# Altium integrated library Diodes - TVS.IntLib: 5379 symbols (part 11 of 122)
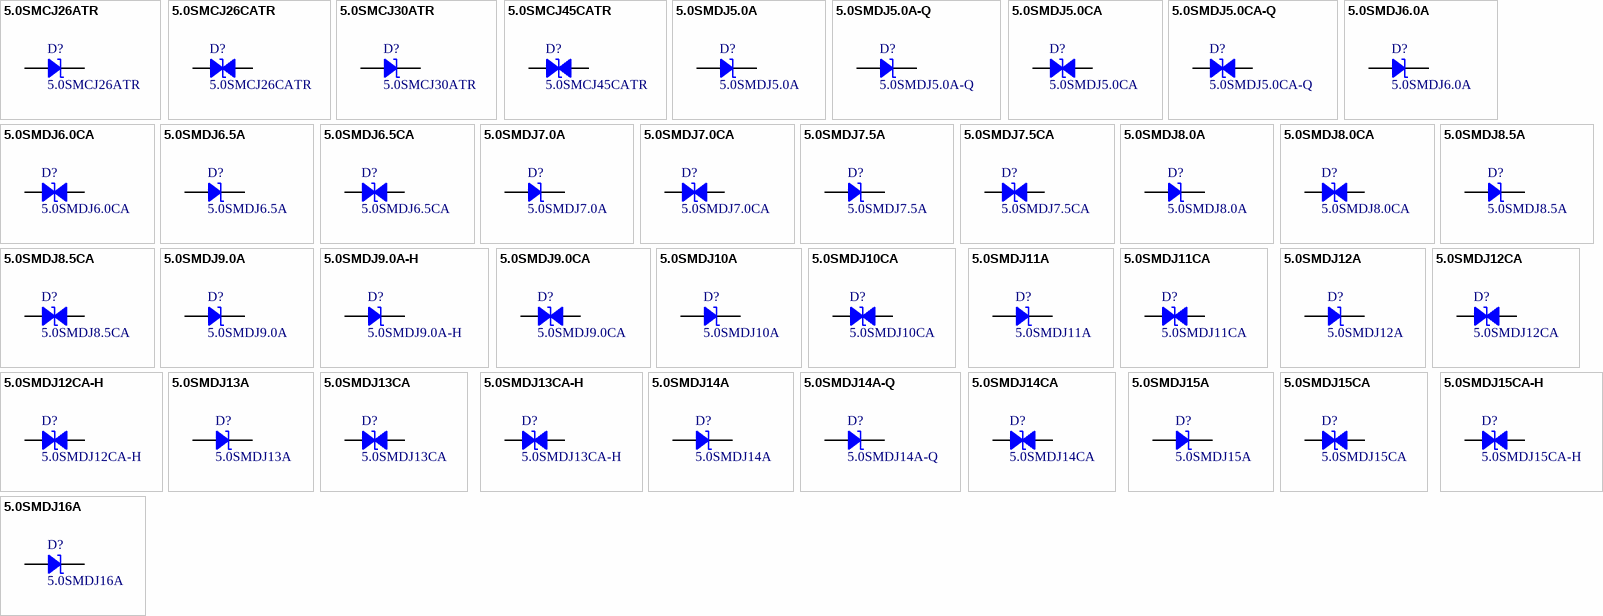
[diagram p144: symbols 5.0SMCJ26ATR to 5.0SMDJ16A]

## 5.0SMDJ14CA
designator D?
TVS DIODE 14V 23.2V DO214AB; Manufacturer: Littelfuse Inc.; Bidirectional Channels: 1; Current - Peak Pulse (10/1000µs): 216A; Power Line Protection: No; Power - Peak Pulse: 5000W (5kW); Type: Zener; Voltage - Breakdown (Min): 15.6V; Part Number: 5.0SMDJ14CA; Applications: General Purpose; ComponentLink1Description: Datasheet; ComponentLink1URL: https://www.littelfuse.com/products/tvs-diodes/surface-mount/~/media/electronics/datasheets/tvs_diodes/littelfuse_tvs_diode_5_0smdj_datasheet.pdf.pdf; ComponentLink2Description: DigiKey Link; ComponentLink2URL: http://digikey.com/product-detail/en/littelfuse-inc/5.0SMDJ14CA/F6610CT-ND/2699837; LastUpdated: 9/2/2020 1:28:03 AM; Lifecycle Status: Active; Minimum Order: 1; Mounting Type: Surface Mount; Operating Temperature: -65°C ~ 150°C (TJ); Package / Case: DO-214AB, SMC; Packaging: TapeAndReel; PartId: 8144; Part Status: Active; Price: 0.86; Series: 5.0SMDJ; Supplier 1: DigiKey; Supplier Part Number 1: F6610CT-ND; Supplier Device Package: DO-214AB (SMCJ); Voltage - Clamping (Max) @ Ipp: 23.2V; Voltage - Reverse Standoff (Typ): 14V
footprint DO214AB SMC
pins: 1, 2

## 5.0SMDJ15A
designator D?
TVS DIODE 15V 24.4V DO214AB; Manufacturer: Bourns Inc.; Current - Peak Pulse (10/1000µs): 205A; Power Line Protection: No; Power - Peak Pulse: 5000W (5kW); Type: Zener; Unidirectional Channels: 1; Voltage - Breakdown (Min): 16.7V; Part Number: 5.0SMDJ15A; Applications: General Purpose; ComponentLink1Description: Datasheet; ComponentLink1URL: https://www.bourns.com/docs/product-datasheets/5-0smdj.pdf; ComponentLink2Description: DigiKey Link; ComponentLink2URL: http://digikey.com/product-detail/en/bourns-inc/5.0SMDJ15A/5.0SMDJ15ABBCT-ND/7796642; LastUpdated: 9/2/2020 1:20:00 AM; Lifecycle Status: Active; Minimum Order: 1; Mounting Type: Surface Mount; Operating Temperature: -55°C ~ 150°C (TJ); Package / Case: DO-214AB, SMC; Packaging: TapeAndReel; PartId: 6453; Part Status: Active; Price: 0.72; Series: 5.0SMDJ; Supplier 1: DigiKey; Supplier Part Number 1: 5.0SMDJ15ABBCT-ND; Supplier Device Package: DO-214AB (SMC); Voltage - Clamping (Max) @ Ipp: 24.4V; Voltage - Reverse Standoff (Typ): 15V
footprint DO214AB SMC
pins: 1, 2

## 5.0SMDJ15CA
designator D?
TVS DIODE 15V 24.4V DO214AB; Manufacturer: Bourns Inc.; Bidirectional Channels: 1; Current - Peak Pulse (10/1000µs): 205A; Power Line Protection: No; Power - Peak Pulse: 5000W (5kW); Type: Zener; Voltage - Breakdown (Min): 16.7V; Part Number: 5.0SMDJ15CA; Applications: General Purpose; ComponentLink1Description: Datasheet; ComponentLink1URL: https://www.bourns.com/docs/product-datasheets/5-0smdj.pdf; ComponentLink2Description: DigiKey Link; ComponentLink2URL: http://digikey.com/product-detail/en/bourns-inc/5.0SMDJ15CA/5.0SMDJ15CABBCT-ND/7796643; LastUpdated: 9/2/2020 1:28:01 AM; Lifecycle Status: Active; Minimum Order: 1; Mounting Type: Surface Mount; Operating Temperature: -55°C ~ 150°C (TJ); Package / Case: DO-214AB, SMC; Packaging: TapeAndReel; PartId: 7890; Part Status: Active; Price: 0.76; Series: 5.0SMDJ; Supplier 1: DigiKey; Supplier Part Number 1: 5.0SMDJ15CABBCT-ND; Supplier Device Package: DO-214AB (SMC); Voltage - Clamping (Max) @ Ipp: 24.4V; Voltage - Reverse Standoff (Typ): 15V
footprint DO214AB SMC
pins: 1, 2

## 5.0SMDJ15CA-H
designator D?
TVS DIODE 15V 24.4V DO214AB; Manufacturer: Bourns Inc.; Bidirectional Channels: 1; Current - Peak Pulse (10/1000µs): 205A; Power Line Protection: No; Power - Peak Pulse: 5000W (5kW); Type: Zener; Voltage - Breakdown (Min): 16.7V; Part Number: 5.0SMDJ15CA-H; Applications: General Purpose; ComponentLink1Description: Datasheet; ComponentLink1URL: https://www.bourns.com/docs/product-datasheets/5-0smdj.pdf; ComponentLink2Description: DigiKey Link; ComponentLink2URL: http://digikey.com/product-detail/en/bourns-inc/5.0SMDJ15CA-H/5.0SMDJ15CA-HCT-ND/7670056; LastUpdated: 9/2/2020 1:28:04 AM; Lifecycle Status: Active; Minimum Order: 1; Mounting Type: Surface Mount; Operating Temperature: -55°C ~ 150°C (TJ); Package / Case: DO-214AB, SMC; Packaging: TapeAndReel; PartId: 8239; Part Status: Active; Price: 0.91; Series: 5.0SMDJ; Supplier 1: DigiKey; Supplier Part Number 1: 5.0SMDJ15CA-HCT-ND; Supplier Device Package: DO-214AB (SMC); Voltage - Clamping (Max) @ Ipp: 24.4V; Voltage - Reverse Standoff (Typ): 15V
footprint DO214AB SMC
pins: 1, 2

## 5.0SMDJ16A
designator D?
TVS DIODE 16V 26V DO214AB; Manufacturer: Littelfuse Inc.; Current - Peak Pulse (10/1000µs): 193A; Power Line Protection: No; Power - Peak Pulse: 5000W (5kW); Type: Zener; Unidirectional Channels: 1; Voltage - Breakdown (Min): 17.8V; Part Number: 5.0SMDJ16A; Applications: General Purpose; ComponentLink1Description: Datasheet; ComponentLink1URL: https://www.littelfuse.com/products/tvs-diodes/surface-mount/~/media/electronics/datasheets/tvs_diodes/littelfuse_tvs_diode_5_0smdj_datasheet.pdf.pdf; ComponentLink2Description: DigiKey Link; ComponentLink2URL: http://digikey.com/product-detail/en/littelfuse-inc/5.0SMDJ16A/5.0SMDJ16ACT-ND/1835378; LastUpdated: 9/2/2020 1:20:05 AM; Lifecycle Status: Active; Minimum Order: 1; Mounting Type: Surface Mount; Operating Temperature: -65°C ~ 150°C (TJ); Package / Case: DO-214AB, SMC; Packaging: TapeAndReel; PartId: 6945; Part Status: Active; Price: 0.80; Series: 5.0SMDJ; Supplier 1: DigiKey; Supplier Part Number 1: 5.0SMDJ16ACT-ND; Supplier Device Package: DO-214AB (SMCJ); Voltage - Clamping (Max) @ Ipp: 26V; Voltage - Reverse Standoff (Typ): 16V
footprint DO214AB SMC
pins: 1, 2

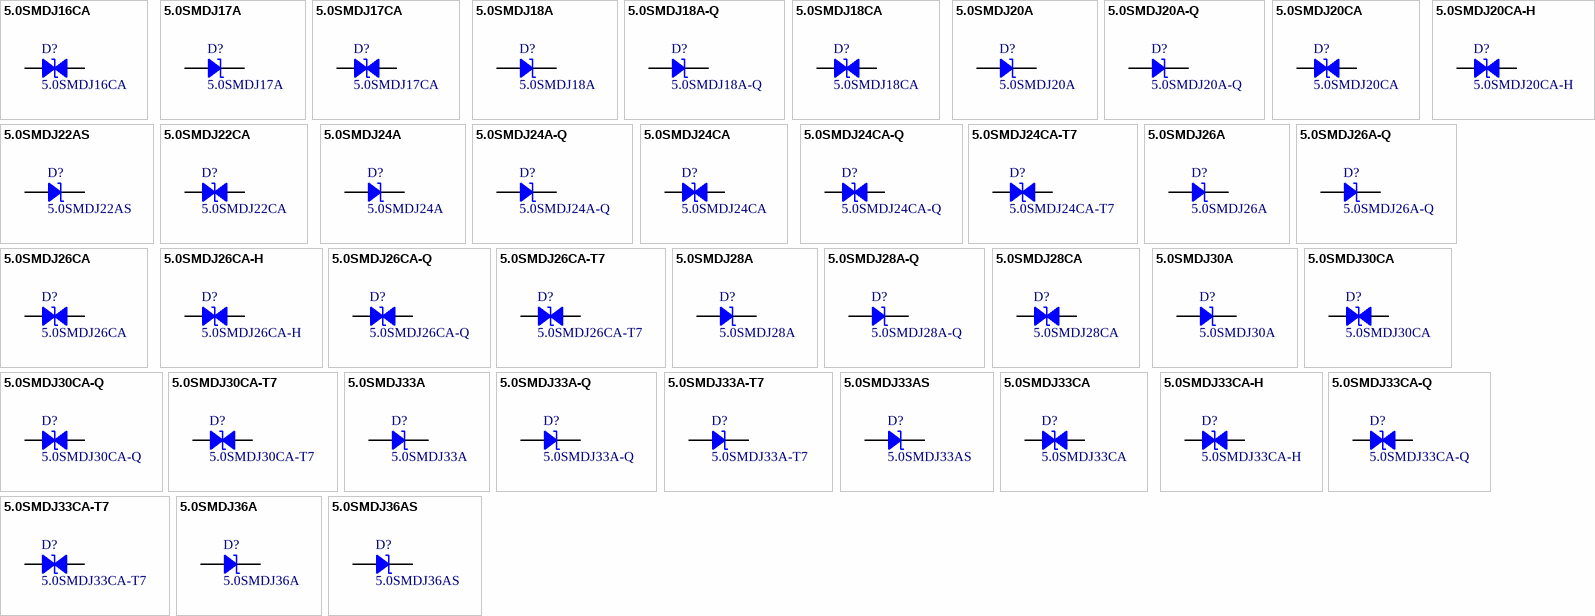
[diagram p11: symbols 5.0SMDJ16CA to 5.0SMDJ36AS]

## 5.0SMDJ16CA
designator D?
TVS DIODE 16V 26V DO214AB; Manufacturer: Littelfuse Inc.; Bidirectional Channels: 1; Current - Peak Pulse (10/1000µs): 193A; Power Line Protection: No; Power - Peak Pulse: 5000W (5kW); Type: Zener; Voltage - Breakdown (Min): 17.8V; Part Number: 5.0SMDJ16CA; Applications: General Purpose; ComponentLink1Description: Datasheet; ComponentLink1URL: https://www.littelfuse.com/products/tvs-diodes/surface-mount/~/media/electronics/datasheets/tvs_diodes/littelfuse_tvs_diode_5_0smdj_datasheet.pdf.pdf; ComponentLink2Description: DigiKey Link; ComponentLink2URL: http://digikey.com/product-detail/en/littelfuse-inc/5.0SMDJ16CA/5.0SMDJ16CACT-ND/2699841; LastUpdated: 9/2/2020 1:28:03 AM; Lifecycle Status: Active; Minimum Order: 1; Mounting Type: Surface Mount; Operating Temperature: -65°C ~ 150°C (TJ); Package / Case: DO-214AB, SMC; Packaging: TapeAndReel; PartId: 8145; Part Status: Active; Price: 0.86; Series: 5.0SMDJ; Supplier 1: DigiKey; Supplier Part Number 1: 5.0SMDJ16CACT-ND; Supplier Device Package: DO-214AB (SMCJ); Voltage - Clamping (Max) @ Ipp: 26V; Voltage - Reverse Standoff (Typ): 16V
footprint DO214AB SMC
pins: 1, 2

## 5.0SMDJ17A
designator D?
TVS DIODE 17V 27.6V DO214AB; Manufacturer: Littelfuse Inc.; Current - Peak Pulse (10/1000µs): 181A; Power Line Protection: No; Power - Peak Pulse: 5000W (5kW); Type: Zener; Unidirectional Channels: 1; Voltage - Breakdown (Min): 18.9V; Part Number: 5.0SMDJ17A; Applications: General Purpose; ComponentLink1Description: Datasheet; ComponentLink1URL: https://www.littelfuse.com/products/tvs-diodes/surface-mount/~/media/electronics/datasheets/tvs_diodes/littelfuse_tvs_diode_5_0smdj_datasheet.pdf.pdf; ComponentLink2Description: DigiKey Link; ComponentLink2URL: http://digikey.com/product-detail/en/littelfuse-inc/5.0SMDJ17A/5.0SMDJ17ACT-ND/2699843; LastUpdated: 9/2/2020 1:19:58 AM; Lifecycle Status: Active; Minimum Order: 1; Mounting Type: Surface Mount; Operating Temperature: -65°C ~ 150°C (TJ); Package / Case: DO-214AB, SMC; Packaging: TapeAndReel; PartId: 6234; Part Status: Active; Price: 0.80; Series: 5.0SMDJ; Supplier 1: DigiKey; Supplier Part Number 1: 5.0SMDJ17ACT-ND; Supplier Device Package: DO-214AB (SMCJ); Voltage - Clamping (Max) @ Ipp: 27.6V; Voltage - Reverse Standoff (Typ): 17V
footprint DO214AB SMC
pins: 1, 2

## 5.0SMDJ17CA
designator D?
TVS DIODE 17V 27.6V DO214AB; Manufacturer: Littelfuse Inc.; Bidirectional Channels: 1; Current - Peak Pulse (10/1000µs): 181A; Power Line Protection: No; Power - Peak Pulse: 5000W (5kW); Type: Zener; Voltage - Breakdown (Min): 18.9V; Part Number: 5.0SMDJ17CA; Applications: General Purpose; ComponentLink1Description: Datasheet; ComponentLink1URL: https://www.littelfuse.com/products/tvs-diodes/surface-mount/~/media/electronics/datasheets/tvs_diodes/littelfuse_tvs_diode_5_0smdj_datasheet.pdf.pdf; ComponentLink2Description: DigiKey Link; ComponentLink2URL: http://digikey.com/product-detail/en/littelfuse-inc/5.0SMDJ17CA/F6611CT-ND/2699844; LastUpdated: 9/2/2020 1:28:06 AM; Lifecycle Status: Active; Minimum Order: 1; Mounting Type: Surface Mount; Operating Temperature: -65°C ~ 150°C (TJ); Package / Case: DO-214AB, SMC; Packaging: TapeAndReel; PartId: 8420; Part Status: Active; Price: 0.86; Series: 5.0SMDJ; Supplier 1: DigiKey; Supplier Part Number 1: F6611CT-ND; Supplier Device Package: DO-214AB (SMCJ); Voltage - Clamping (Max) @ Ipp: 27.6V; Voltage - Reverse Standoff (Typ): 17V
footprint DO214AB SMC
pins: 1, 2

## 5.0SMDJ18A
designator D?
TVS DIODE 18V 29.2V DO214AB; Manufacturer: Bourns Inc.; Current - Peak Pulse (10/1000µs): 172A; Power Line Protection: No; Power - Peak Pulse: 5000W (5kW); Type: Zener; Unidirectional Channels: 1; Voltage - Breakdown (Min): 20V; Part Number: 5.0SMDJ18A; Applications: General Purpose; ComponentLink1Description: Datasheet; ComponentLink1URL: https://www.bourns.com/docs/product-datasheets/5-0smdj.pdf; ComponentLink2Description: DigiKey Link; ComponentLink2URL: http://digikey.com/product-detail/en/bourns-inc/5.0SMDJ18A/5.0SMDJ18ABBCT-ND/7796645; LastUpdated: 9/2/2020 1:20:00 AM; Lifecycle Status: Active; Minimum Order: 1; Mounting Type: Surface Mount; Operating Temperature: -55°C ~ 150°C (TJ); Package / Case: DO-214AB, SMC; Packaging: TapeAndReel; PartId: 6452; Part Status: Active; Price: 0.67; Series: 5.0SMDJ; Supplier 1: DigiKey; Supplier Part Number 1: 5.0SMDJ18ABBCT-ND; Supplier Device Package: DO-214AB (SMC); Voltage - Clamping (Max) @ Ipp: 29.2V; Voltage - Reverse Standoff (Typ): 18V
footprint DO214AB SMC
pins: 1, 2

## 5.0SMDJ18A-Q
designator D?
DIO TVS VWM 18V 5KW UNIDIR SMC A; Manufacturer: Bourns Inc.; Current - Peak Pulse (10/1000µs): 172A; Power Line Protection: No; Power - Peak Pulse: 5000W (5kW); Type: Zener; Unidirectional Channels: 1; Voltage - Breakdown (Min): 20V; Voltage - Clamping (Max) @ Ipp: 29.2V; Part Number: 5.0SMDJ18A-Q; Applications: Automotive; ComponentLink1Description: Datasheet; ComponentLink1URL: https://www.bourns.com/docs/product-datasheets/5-0smdj-q.pdf?sfvrsn=a6c72f6_2; ComponentLink2Description: DigiKey Link; ComponentLink2URL: http://digikey.com/product-detail/en/bourns-inc/5.0SMDJ18A-Q/5.0SMDJ18A-QCT-ND/10222668; LastUpdated: 9/2/2020 1:20:03 AM; Lifecycle Status: Active; Minimum Order: 1; Mounting Type: Surface Mount; Operating Temperature: -55°C ~ 150°C (TJ); Package / Case: DO-214AB, SMC; Packaging: TapeAndReel; PartId: 6747; Part Status: Active; Price: 0.86; Series: Automotive, AEC-Q101, 5.0SMDJ; Supplier 1: DigiKey; Supplier Part Number 1: 5.0SMDJ18A-QCT-ND; Supplier Device Package: SMC (DO-214AB); Voltage - Reverse Standoff (Typ): 18V
footprint DO214AB SMC
pins: 1, 2

## 5.0SMDJ18CA
designator D?
TVS DIODE 18V 29.2V DO214AB; Manufacturer: Bourns Inc.; Bidirectional Channels: 1; Current - Peak Pulse (10/1000µs): 172A; Power Line Protection: No; Power - Peak Pulse: 5000W (5kW); Type: Zener; Voltage - Breakdown (Min): 20V; Part Number: 5.0SMDJ18CA; Applications: General Purpose; ComponentLink1Description: Datasheet; ComponentLink1URL: https://www.bourns.com/docs/product-datasheets/5-0smdj-q.pdf; ComponentLink2Description: DigiKey Link; ComponentLink2URL: http://digikey.com/product-detail/en/bourns-inc/5.0SMDJ18CA/118-5.0SMDJ18CACT-ND/10447722; LastUpdated: 9/2/2020 1:28:08 AM; Lifecycle Status: Active; Minimum Order: 1; Mounting Type: Surface Mount; Operating Temperature: -55°C ~ 150°C (TJ); Package / Case: DO-214AB, SMC; Packaging: TapeAndReel; PartId: 8616; Part Status: Active; Price: 0.76; Series: 5.0SMDJ; Supplier 1: DigiKey; Supplier Part Number 1: 118-5.0SMDJ18CACT-ND; Supplier Device Package: DO-214AB (SMC); Voltage - Clamping (Max) @ Ipp: 29.2V; Voltage - Reverse Standoff (Typ): 18V
footprint DO214AB SMC
pins: 1, 2

## 5.0SMDJ20A
designator D?
TVS DIODE 20V 32.4V DO214AB; Manufacturer: Littelfuse Inc.; Current - Peak Pulse (10/1000µs): 155A; Power Line Protection: No; Power - Peak Pulse: 5000W (5kW); Type: Zener; Unidirectional Channels: 1; Voltage - Breakdown (Min): 22.2V; Part Number: 5.0SMDJ20A; Applications: General Purpose; ComponentLink1Description: Datasheet; ComponentLink1URL: https://www.littelfuse.com/products/tvs-diodes/surface-mount/~/media/electronics/datasheets/tvs_diodes/littelfuse_tvs_diode_5_0smdj_datasheet.pdf.pdf; ComponentLink2Description: DigiKey Link; ComponentLink2URL: http://digikey.com/product-detail/en/littelfuse-inc/5.0SMDJ20A/5.0SMDJ20ACT-ND/2699845; LastUpdated: 9/2/2020 1:20:05 AM; Lifecycle Status: Active; Minimum Order: 1; Mounting Type: Surface Mount; Operating Temperature: -65°C ~ 150°C (TJ); Package / Case: DO-214AB, SMC; Packaging: TapeAndReel; PartId: 6947; Part Status: Active; Price: 0.80; Series: 5.0SMDJ; Supplier 1: DigiKey; Supplier Part Number 1: 5.0SMDJ20ACT-ND; Supplier Device Package: DO-214AB (SMCJ); Voltage - Clamping (Max) @ Ipp: 32.4V; Voltage - Reverse Standoff (Typ): 20V
footprint DO214AB SMC
pins: 1, 2

## 5.0SMDJ20A-Q
designator D?
DIO TVS VWM 20V 5KW UNIDIR SMC A; Manufacturer: Bourns Inc.; Current - Peak Pulse (10/1000µs): 155A; Power Line Protection: No; Power - Peak Pulse: 5000W (5kW); Type: Zener; Unidirectional Channels: 1; Voltage - Breakdown (Min): 22.2V; Voltage - Clamping (Max) @ Ipp: 32.4V; Part Number: 5.0SMDJ20A-Q; Applications: Automotive; ComponentLink1Description: Datasheet; ComponentLink1URL: https://www.bourns.com/docs/product-datasheets/5-0smdj-q.pdf?sfvrsn=a6c72f6_2; ComponentLink2Description: DigiKey Link; ComponentLink2URL: http://digikey.com/product-detail/en/bourns-inc/5.0SMDJ20A-Q/5.0SMDJ20A-QCT-ND/10222669; LastUpdated: 9/2/2020 1:20:03 AM; Lifecycle Status: Active; Minimum Order: 1; Mounting Type: Surface Mount; Operating Temperature: -55°C ~ 150°C (TJ); Package / Case: DO-214AB, SMC; Packaging: TapeAndReel; PartId: 6746; Part Status: Active; Price: 0.86; Series: Automotive, AEC-Q101, 5.0SMDJ; Supplier 1: DigiKey; Supplier Part Number 1: 5.0SMDJ20A-QCT-ND; Supplier Device Package: SMC (DO-214AB); Voltage - Reverse Standoff (Typ): 20V
footprint DO214AB SMC
pins: 1, 2

## 5.0SMDJ20CA
designator D?
TVS DIODE 20V 32.4V DO214AB; Manufacturer: Littelfuse Inc.; Bidirectional Channels: 1; Current - Peak Pulse (10/1000µs): 155A; Power Line Protection: No; Power - Peak Pulse: 5000W (5kW); Type: Zener; Voltage - Breakdown (Min): 22.2V; Part Number: 5.0SMDJ20CA; Applications: General Purpose; ComponentLink1Description: Datasheet; ComponentLink1URL: https://www.littelfuse.com/products/tvs-diodes/surface-mount/~/media/electronics/datasheets/tvs_diodes/littelfuse_tvs_diode_5_0smdj_datasheet.pdf.pdf; ComponentLink2Description: DigiKey Link; ComponentLink2URL: http://digikey.com/product-detail/en/littelfuse-inc/5.0SMDJ20CA/5.0SMDJ20CACT-ND/2699846; LastUpdated: 9/2/2020 1:28:03 AM; Lifecycle Status: Active; Minimum Order: 1; Mounting Type: Surface Mount; Operating Temperature: -65°C ~ 150°C (TJ); Package / Case: DO-214AB, SMC; Packaging: TapeAndReel; PartId: 8140; Part Status: Active; Price: 1.02; Series: 5.0SMDJ; Supplier 1: DigiKey; Supplier Part Number 1: 5.0SMDJ20CACT-ND; Supplier Device Package: DO-214AB (SMCJ); Voltage - Clamping (Max) @ Ipp: 32.4V; Voltage - Reverse Standoff (Typ): 20V
footprint DO214AB SMC
pins: 1, 2

## 5.0SMDJ20CA-H
designator D?
TVS DIODE 20V 32.4V DO214AB; Manufacturer: Bourns Inc.; Bidirectional Channels: 1; Current - Peak Pulse (10/1000µs): 155A; Power Line Protection: No; Power - Peak Pulse: 5000W (5kW); Type: Zener; Voltage - Breakdown (Min): 22.2V; Part Number: 5.0SMDJ20CA-H; Applications: General Purpose; ComponentLink1Description: Datasheet; ComponentLink1URL: https://www.bourns.com/docs/product-datasheets/5-0smdj.pdf; ComponentLink2Description: DigiKey Link; ComponentLink2URL: http://digikey.com/product-detail/en/bourns-inc/5.0SMDJ20CA-H/5.0SMDJ20CA-HCT-ND/7670057; LastUpdated: 9/2/2020 1:28:01 AM; Lifecycle Status: Active; Minimum Order: 1; Mounting Type: Surface Mount; Operating Temperature: -55°C ~ 150°C (TJ); Package / Case: DO-214AB, SMC; Packaging: TapeAndReel; PartId: 7887; Part Status: Active; Price: 0.91; Series: 5.0SMDJ; Supplier 1: DigiKey; Supplier Part Number 1: 5.0SMDJ20CA-HCT-ND; Supplier Device Package: DO-214AB (SMC); Voltage - Clamping (Max) @ Ipp: 32.4V; Voltage - Reverse Standoff (Typ): 20V
footprint DO214AB SMC
pins: 1, 2

## 5.0SMDJ22AS
designator D?
TVS 5KW 22V 5%UNI DO-214AB TR13; Manufacturer: Littelfuse Inc.; Current - Peak Pulse (10/1000µs): 140.8A; Power Line Protection: No; Power - Peak Pulse: 5000W (5kW); Type: Zener; Unidirectional Channels: 1; Voltage - Breakdown (Min): 24.4V; Voltage - Clamping (Max) @ Ipp: 35.5V; Part Number: 5.0SMDJ22AS; Applications: Telecom; ComponentLink1Description: Datasheet; ComponentLink1URL: https://m.littelfuse.com/~/media/electronics/datasheets/tvs_diodes/littelfuse_tvs_diode_5_0smdjxxs_datasheet.pdf.pdf; ComponentLink2Description: DigiKey Link; ComponentLink2URL: http://digikey.com/product-detail/en/littelfuse-inc/5-0SMDJ22AS/18-5-0SMDJ22ASCT-ND/12756493; LastUpdated: 8/30/2020 9:01:03 PM; Lifecycle Status: Active; Minimum Order: 1; Mounting Type: Surface Mount; Package / Case: DO-214AB, SMC; Packaging: TapeAndReel; PartId: 11444; Price: 0.64; Series: 5.0SMDJ-S; Supplier 1: DigiKey; Supplier Part Number 1: 18-5.0SMDJ22ASCT-ND; Supplier Device Package: DO-214AB (SMCJ); Voltage - Reverse Standoff (Typ): 22V
footprint DO214AB SMC
pins: 1, 2

## 5.0SMDJ22CA
designator D?
TVS DIODE 22V 35.5V DO214AB; Manufacturer: Littelfuse Inc.; Bidirectional Channels: 1; Current - Peak Pulse (10/1000µs): 141A; Power Line Protection: No; Power - Peak Pulse: 5000W (5kW); Type: Zener; Voltage - Breakdown (Min): 24.4V; Part Number: 5.0SMDJ22CA; Applications: General Purpose; ComponentLink1Description: Datasheet; ComponentLink1URL: https://www.littelfuse.com/products/tvs-diodes/surface-mount/~/media/electronics/datasheets/tvs_diodes/littelfuse_tvs_diode_5_0smdj_datasheet.pdf.pdf; ComponentLink2Description: DigiKey Link; ComponentLink2URL: http://digikey.com/product-detail/en/littelfuse-inc/5.0SMDJ22CA/F10850CT-ND/8109586; LastUpdated: 9/2/2020 1:28:06 AM; Lifecycle Status: Active; Minimum Order: 1; Mounting Type: Surface Mount; Operating Temperature: -65°C ~ 150°C (TJ); Package / Case: DO-214AB, SMC; Packaging: TapeAndReel; PartId: 8405; Part Status: Active; Price: 1.02; Series: 5.0SMDJ; Supplier 1: DigiKey; Supplier Part Number 1: F10850CT-ND; Supplier Device Package: DO-214AB (SMCJ); Voltage - Clamping (Max) @ Ipp: 35.5V; Voltage - Reverse Standoff (Typ): 22V
footprint DO214AB SMC
pins: 1, 2

## 5.0SMDJ24A
designator D?
TVS DIODE 24V 38.9V DO214AB; Manufacturer: Littelfuse Inc.; Current - Peak Pulse (10/1000µs): 129A; Power Line Protection: No; Power - Peak Pulse: 5000W (5kW); Type: Zener; Unidirectional Channels: 1; Voltage - Breakdown (Min): 26.7V; Part Number: 5.0SMDJ24A; Applications: General Purpose; ComponentLink1Description: Datasheet; ComponentLink1URL: https://www.littelfuse.com/products/tvs-diodes/surface-mount/~/media/electronics/datasheets/tvs_diodes/littelfuse_tvs_diode_5_0smdj_datasheet.pdf.pdf; ComponentLink2Description: DigiKey Link; ComponentLink2URL: http://digikey.com/product-detail/en/littelfuse-inc/5.0SMDJ24A/5.0SMDJ24ACT-ND/1835380; LastUpdated: 9/2/2020 1:20:01 AM; Lifecycle Status: Active; Minimum Order: 1; Mounting Type: Surface Mount; Operating Temperature: -65°C ~ 150°C (TJ); Package / Case: DO-214AB, SMC; Packaging: TapeAndReel; PartId: 6521; Part Status: Active; Price: 0.80; Series: 5.0SMDJ; Supplier 1: DigiKey; Supplier Part Number 1: 5.0SMDJ24ACT-ND; Supplier Device Package: DO-214AB (SMCJ); Voltage - Clamping (Max) @ Ipp: 38.9V; Voltage - Reverse Standoff (Typ): 24V
footprint DO214AB SMC
pins: 1, 2

## 5.0SMDJ24A-Q
designator D?
DIO TVS VWM 24V 5KW UNIDIR SMC A; Manufacturer: Bourns Inc.; Current - Peak Pulse (10/1000µs): 129A; Power Line Protection: No; Power - Peak Pulse: 5000W (5kW); Type: Zener; Unidirectional Channels: 1; Voltage - Breakdown (Min): 26.7V; Voltage - Clamping (Max) @ Ipp: 38.9V; Part Number: 5.0SMDJ24A-Q; Applications: Automotive; ComponentLink1Description: Datasheet; ComponentLink1URL: https://www.bourns.com/docs/product-datasheets/5-0smdj-q.pdf?sfvrsn=a6c72f6_2; ComponentLink2Description: DigiKey Link; ComponentLink2URL: http://digikey.com/product-detail/en/bourns-inc/5.0SMDJ24A-Q/5.0SMDJ24A-QCT-ND/9467297; LastUpdated: 9/2/2020 1:20:04 AM; Lifecycle Status: Active; Minimum Order: 1; Mounting Type: Surface Mount; Operating Temperature: 150°C (TJ); Package / Case: DO-214AB, SMC; Packaging: TapeAndReel; PartId: 6814; Part Status: Active; Price: 0.86; Series: Automotive, AEC-Q101, 5.0SMDJ; Supplier 1: DigiKey; Supplier Part Number 1: 5.0SMDJ24A-QCT-ND; Supplier Device Package: SMC (DO-214AB); Voltage - Reverse Standoff (Typ): 24V
footprint DO214AB SMC
pins: 1, 2

## 5.0SMDJ24CA
designator D?
TVS DIODE 24V 38.9V DO214AB; Manufacturer: Bourns Inc.; Bidirectional Channels: 1; Current - Peak Pulse (10/1000µs): 129A; Power Line Protection: No; Power - Peak Pulse: 5000W (5kW); Type: Zener; Voltage - Breakdown (Min): 26.7V; Part Number: 5.0SMDJ24CA; Applications: General Purpose; ComponentLink1Description: Datasheet; ComponentLink1URL: https://www.bourns.com/docs/product-datasheets/5-0smdj.pdf; ComponentLink2Description: DigiKey Link; ComponentLink2URL: http://digikey.com/product-detail/en/bourns-inc/5.0SMDJ24CA/5.0SMDJ24CABBCT-ND/7796649; LastUpdated: 9/2/2020 1:28:04 AM; Lifecycle Status: Active; Minimum Order: 1; Mounting Type: Surface Mount; Operating Temperature: -55°C ~ 150°C (TJ); Package / Case: DO-214AB, SMC; Packaging: TapeAndReel; PartId: 8252; Part Status: Active; Price: 0.70; Series: 5.0SMDJ; Supplier 1: DigiKey; Supplier Part Number 1: 5.0SMDJ24CABBCT-ND; Supplier Device Package: DO-214AB (SMC); Voltage - Clamping (Max) @ Ipp: 38.9V; Voltage - Reverse Standoff (Typ): 24V
footprint DO214AB SMC
pins: 1, 2

## 5.0SMDJ24CA-Q
designator D?
DIO TVS VWM 24V 5KW BIDIR SMC AE; Manufacturer: Bourns Inc.; Bidirectional Channels: 1; Current - Peak Pulse (10/1000µs): 129A; Power Line Protection: No; Power - Peak Pulse: 5000W (5kW); Type: Zener; Voltage - Breakdown (Min): 26.7V; Voltage - Clamping (Max) @ Ipp: 38.9V; Part Number: 5.0SMDJ24CA-Q; Applications: Automotive; ComponentLink1Description: Datasheet; ComponentLink1URL: https://www.bourns.com/docs/product-datasheets/5-0smdj-q.pdf?sfvrsn=a6c72f6_2; ComponentLink2Description: DigiKey Link; ComponentLink2URL: http://digikey.com/product-detail/en/bourns-inc/5.0SMDJ24CA-Q/5.0SMDJ24CA-QCT-ND/9467300; LastUpdated: 9/2/2020 1:28:06 AM; Lifecycle Status: Active; Minimum Order: 1; Mounting Type: Surface Mount; Operating Temperature: 150°C (TJ); Package / Case: DO-214AB, SMC; Packaging: TapeAndReel; PartId: 8418; Part Status: Active; Price: 0.91; Series: Automotive, AEC-Q101, 5.0SMDJ; Supplier 1: DigiKey; Supplier Part Number 1: 5.0SMDJ24CA-QCT-ND; Supplier Device Package: SMC (DO-214AB); Voltage - Reverse Standoff (Typ): 24V
footprint DO214AB SMC
pins: 1, 2

## 5.0SMDJ24CA-T7
designator D?
TVS DIODE 24VWM 38.9VC SMD; Manufacturer: Littelfuse Inc.; Bidirectional Channels: 1; Current - Peak Pulse (10/1000µs): 129A; Power Line Protection: No; Power - Peak Pulse: 5000W (5kW); Type: Zener; Voltage - Breakdown (Min): 26.7V; Voltage - Clamping (Max) @ Ipp: 38.9V; Voltage - Reverse Standoff (Typ): 24V; Part Number: 5.0SMDJ24CA-T7; Applications: General Purpose; ComponentLink1Description: Datasheet; ComponentLink1URL: https://www.littelfuse.com/products/tvs-diodes/surface-mount/~/media/electronics/datasheets/tvs_diodes/littelfuse_tvs_diode_5_0smdj_datasheet.pdf.pdf; ComponentLink2Description: DigiKey Link; ComponentLink2URL: http://digikey.com/product-detail/en/littelfuse-inc/5.0SMDJ24CA-T7/5.0SMDJ24CA-T7CT-ND/8548358; LastUpdated: 9/2/2020 1:28:01 AM; Lifecycle Status: Active; Minimum Order: 1; Mounting Type: Surface Mount; Operating Temperature: -65°C ~ 150°C (TJ); Package / Case: DO-214AB, SMC; Packaging: TapeAndReel; PartId: 7872; Part Status: Active; Price: 1.22; Series: 5.0SMDJ; Supplier 1: DigiKey; Supplier Part Number 1: 5.0SMDJ24CA-T7CT-ND; Supplier Device Package: DO-214AB (SMCJ)
footprint DO214AB SMC
pins: 1, 2

## 5.0SMDJ26A
designator D?
TVS DIODE 26V 42.1V DO214AB; Manufacturer: Littelfuse Inc.; Current - Peak Pulse (10/1000µs): 119A; Power Line Protection: No; Power - Peak Pulse: 5000W (5kW); Type: Zener; Unidirectional Channels: 1; Voltage - Breakdown (Min): 28.9V; Part Number: 5.0SMDJ26A; Applications: General Purpose; ComponentLink1Description: Datasheet; ComponentLink1URL: https://www.littelfuse.com/products/tvs-diodes/surface-mount/~/media/electronics/datasheets/tvs_diodes/littelfuse_tvs_diode_5_0smdj_datasheet.pdf.pdf; ComponentLink2Description: DigiKey Link; ComponentLink2URL: http://digikey.com/product-detail/en/littelfuse-inc/5.0SMDJ26A/F10851CT-ND/8109587; LastUpdated: 9/2/2020 1:20:04 AM; Lifecycle Status: Active; Minimum Order: 1; Mounting Type: Surface Mount; Operating Temperature: -65°C ~ 150°C (TJ); Package / Case: DO-214AB, SMC; Packaging: TapeAndReel; PartId: 6836; Part Status: Active; Price: 0.80; Series: 5.0SMDJ; Supplier 1: DigiKey; Supplier Part Number 1: F10851CT-ND; Supplier Device Package: DO-214AB (SMCJ); Voltage - Clamping (Max) @ Ipp: 42.1V; Voltage - Reverse Standoff (Typ): 26V
footprint DO214AB SMC
pins: 1, 2

## 5.0SMDJ26A-Q
designator D?
DIO TVS VWM 26V 5KW UNIDIR SMC A; Manufacturer: Bourns Inc.; Current - Peak Pulse (10/1000µs): 119A; Power Line Protection: No; Power - Peak Pulse: 5000W (5kW); Type: Zener; Unidirectional Channels: 1; Voltage - Breakdown (Min): 28.9V; Voltage - Clamping (Max) @ Ipp: 42.1V; Part Number: 5.0SMDJ26A-Q; Applications: Automotive; ComponentLink1Description: Datasheet; ComponentLink1URL: https://www.bourns.com/docs/product-datasheets/5-0smdj-q.pdf?sfvrsn=a6c72f6_2; ComponentLink2Description: DigiKey Link; ComponentLink2URL: http://digikey.com/product-detail/en/bourns-inc/5.0SMDJ26A-Q/5.0SMDJ26A-QCT-ND/9467298; LastUpdated: 9/2/2020 1:20:04 AM; Lifecycle Status: Active; Minimum Order: 1; Mounting Type: Surface Mount; Operating Temperature: 150°C (TJ); Package / Case: DO-214AB, SMC; Packaging: TapeAndReel; PartId: 6815; Part Status: Active; Price: 0.86; Series: Automotive, AEC-Q101, 5.0SMDJ; Supplier 1: DigiKey; Supplier Part Number 1: 5.0SMDJ26A-QCT-ND; Supplier Device Package: SMC (DO-214AB); Voltage - Reverse Standoff (Typ): 26V
footprint DO214AB SMC
pins: 1, 2

## 5.0SMDJ26CA
designator D?
TVS DIODE 26V 42.1V DO214AB; Manufacturer: Bourns Inc.; Bidirectional Channels: 1; Current - Peak Pulse (10/1000µs): 119A; Power Line Protection: No; Power - Peak Pulse: 5000W (5kW); Type: Zener; Voltage - Breakdown (Min): 28.9V; Part Number: 5.0SMDJ26CA; Applications: General Purpose; ComponentLink1Description: Datasheet; ComponentLink1URL: https://www.bourns.com/docs/product-datasheets/5-0smdj.pdf; ComponentLink2Description: DigiKey Link; ComponentLink2URL: http://digikey.com/product-detail/en/bourns-inc/5.0SMDJ26CA/118-5.0SMDJ26CACT-ND/10447739; LastUpdated: 9/2/2020 1:28:05 AM; Lifecycle Status: Active; Minimum Order: 1; Mounting Type: Surface Mount; Operating Temperature: -55°C ~ 150°C (TJ); Package / Case: DO-214AB, SMC; Packaging: TapeAndReel; PartId: 8368; Part Status: Active; Price: 0.76; Series: 5.0SMDJ; Supplier 1: DigiKey; Supplier Part Number 1: 118-5.0SMDJ26CACT-ND; Supplier Device Package: DO-214AB (SMC); Voltage - Clamping (Max) @ Ipp: 42.1V; Voltage - Reverse Standoff (Typ): 26V
footprint DO214AB SMC
pins: 1, 2

## 5.0SMDJ26CA-H
designator D?
TVS DIODE 26V 42.1V DO214AB; Manufacturer: Bourns Inc.; Bidirectional Channels: 1; Current - Peak Pulse (10/1000µs): 119A; Power Line Protection: No; Power - Peak Pulse: 5000W (5kW); Type: Zener; Voltage - Breakdown (Min): 28.9V; Part Number: 5.0SMDJ26CA-H; Applications: General Purpose; ComponentLink1Description: Datasheet; ComponentLink1URL: https://www.bourns.com/docs/product-datasheets/5-0smdj.pdf; ComponentLink2Description: DigiKey Link; ComponentLink2URL: http://digikey.com/product-detail/en/bourns-inc/5.0SMDJ26CA-H/5.0SMDJ26CA-HCT-ND/7670058; LastUpdated: 9/2/2020 1:28:07 AM; Lifecycle Status: Active; Minimum Order: 1; Mounting Type: Surface Mount; Operating Temperature: -55°C ~ 150°C (TJ); Package / Case: DO-214AB, SMC; Packaging: TapeAndReel; PartId: 8579; Part Status: Active; Price: 0.91; Series: 5.0SMDJ; Supplier 1: DigiKey; Supplier Part Number 1: 5.0SMDJ26CA-HCT-ND; Supplier Device Package: DO-214AB (SMC); Voltage - Clamping (Max) @ Ipp: 42.1V; Voltage - Reverse Standoff (Typ): 26V
footprint DO214AB SMC
pins: 1, 2

## 5.0SMDJ26CA-Q
designator D?
DIO TVS VWM 26V 5KW BIDIR SMC AE; Manufacturer: Bourns Inc.; Bidirectional Channels: 1; Current - Peak Pulse (10/1000µs): 119A; Power Line Protection: No; Power - Peak Pulse: 5000W (5kW); Type: Zener; Voltage - Breakdown (Min): 28.9V; Voltage - Clamping (Max) @ Ipp: 42.1V; Part Number: 5.0SMDJ26CA-Q; Applications: Automotive; ComponentLink1Description: Datasheet; ComponentLink1URL: https://www.bourns.com/docs/product-datasheets/5-0smdj-q.pdf?sfvrsn=a6c72f6_2; ComponentLink2Description: DigiKey Link; ComponentLink2URL: http://digikey.com/product-detail/en/bourns-inc/5.0SMDJ26CA-Q/5.0SMDJ26CA-QCT-ND/9467301; LastUpdated: 9/2/2020 1:28:06 AM; Lifecycle Status: Active; Minimum Order: 1; Mounting Type: Surface Mount; Operating Temperature: 150°C (TJ); Package / Case: DO-214AB, SMC; Packaging: TapeAndReel; PartId: 8416; Part Status: Active; Price: 0.91; Series: Automotive, AEC-Q101, 5.0SMDJ; Supplier 1: DigiKey; Supplier Part Number 1: 5.0SMDJ26CA-QCT-ND; Supplier Device Package: SMC (DO-214AB); Voltage - Reverse Standoff (Typ): 26V
footprint DO214AB SMC
pins: 1, 2

## 5.0SMDJ26CA-T7
designator D?
TVS DIODE 26VWM 42.1VC SMD; Manufacturer: Littelfuse Inc.; Bidirectional Channels: 1; Current - Peak Pulse (10/1000µs): 119A; Power Line Protection: No; Power - Peak Pulse: 5000W (5kW); Type: Zener; Voltage - Breakdown (Min): 28.9V; Voltage - Clamping (Max) @ Ipp: 42.1V; Voltage - Reverse Standoff (Typ): 26V; Part Number: 5.0SMDJ26CA-T7; Applications: General Purpose; ComponentLink1Description: Datasheet; ComponentLink1URL: https://www.littelfuse.com/products/tvs-diodes/surface-mount/~/media/electronics/datasheets/tvs_diodes/littelfuse_tvs_diode_5_0smdj_datasheet.pdf.pdf; ComponentLink2Description: DigiKey Link; ComponentLink2URL: http://digikey.com/product-detail/en/littelfuse-inc/5.0SMDJ26CA-T7/5.0SMDJ26CA-T7CT-ND/8548360; LastUpdated: 9/2/2020 1:28:06 AM; Lifecycle Status: Active; Minimum Order: 1; Mounting Type: Surface Mount; Operating Temperature: -65°C ~ 150°C (TJ); Package / Case: DO-214AB, SMC; Packaging: TapeAndReel; PartId: 8485; Part Status: Active; Price: 1.22; Series: 5.0SMDJ; Supplier 1: DigiKey; Supplier Part Number 1: 5.0SMDJ26CA-T7CT-ND; Supplier Device Package: DO-214AB (SMCJ)
footprint DO214AB SMC
pins: 1, 2

## 5.0SMDJ28A
designator D?
TVS DIODE 28V 45.4V DO214AB; Manufacturer: Bourns Inc.; Current - Peak Pulse (10/1000µs): 110A; Power Line Protection: No; Power - Peak Pulse: 5000W (5kW); Type: Zener; Unidirectional Channels: 1; Voltage - Breakdown (Min): 31.1V; Part Number: 5.0SMDJ28A; Applications: General Purpose; ComponentLink1Description: Datasheet; ComponentLink1URL: https://www.bourns.com/docs/product-datasheets/5-0smdj.pdf; ComponentLink2Description: DigiKey Link; ComponentLink2URL: http://digikey.com/product-detail/en/bourns-inc/5.0SMDJ28A/5.0SMDJ28ABBCT-ND/7796650; LastUpdated: 9/2/2020 1:19:58 AM; Lifecycle Status: Active; Minimum Order: 1; Mounting Type: Surface Mount; Operating Temperature: -55°C ~ 150°C (TJ); Package / Case: DO-214AB, SMC; Packaging: TapeAndReel; PartId: 6240; Part Status: Active; Price: 0.72; Series: 5.0SMDJ; Supplier 1: DigiKey; Supplier Part Number 1: 5.0SMDJ28ABBCT-ND; Supplier Device Package: DO-214AB (SMC); Voltage - Clamping (Max) @ Ipp: 45.4V; Voltage - Reverse Standoff (Typ): 28V
footprint DO214AB SMC
pins: 1, 2

## 5.0SMDJ28A-Q
designator D?
DIO TVS VWM 28V 5KW UNIDIR SMC A; Manufacturer: Bourns Inc.; Current - Peak Pulse (10/1000µs): 110A; Power Line Protection: No; Power - Peak Pulse: 5000W (5kW); Type: Zener; Unidirectional Channels: 1; Voltage - Breakdown (Min): 31.1V; Voltage - Clamping (Max) @ Ipp: 45.4V; Part Number: 5.0SMDJ28A-Q; Applications: Automotive; ComponentLink1Description: Datasheet; ComponentLink1URL: https://www.bourns.com/docs/product-datasheets/5-0smdj-q.pdf?sfvrsn=a6c72f6_2; ComponentLink2Description: DigiKey Link; ComponentLink2URL: http://digikey.com/product-detail/en/bourns-inc/5.0SMDJ28A-Q/5.0SMDJ28A-QCT-ND/10222670; LastUpdated: 9/2/2020 1:20:04 AM; Lifecycle Status: Active; Minimum Order: 1; Mounting Type: Surface Mount; Operating Temperature: -55°C ~ 150°C (TJ); Package / Case: DO-214AB, SMC; Packaging: TapeAndReel; PartId: 6817; Part Status: Active; Price: 0.86; Series: Automotive, AEC-Q101, 5.0SMDJ; Supplier 1: DigiKey; Supplier Part Number 1: 5.0SMDJ28A-QCT-ND; Supplier Device Package: SMC (DO-214AB); Voltage - Reverse Standoff (Typ): 28V
footprint DO214AB SMC
pins: 1, 2

## 5.0SMDJ28CA
designator D?
TVS DIODE 28V 45.4V DO214AB; Manufacturer: Bourns Inc.; Bidirectional Channels: 1; Current - Peak Pulse (10/1000µs): 110A; Power Line Protection: No; Power - Peak Pulse: 5000W (5kW); Type: Zener; Voltage - Breakdown (Min): 31.1V; Part Number: 5.0SMDJ28CA; Applications: General Purpose; ComponentLink1Description: Datasheet; ComponentLink1URL: https://www.bourns.com/docs/product-datasheets/5-0smdj.pdf; ComponentLink2Description: DigiKey Link; ComponentLink2URL: http://digikey.com/product-detail/en/bourns-inc/5.0SMDJ28CA/5.0SMDJ28CABBCT-ND/7796651; LastUpdated: 9/2/2020 1:28:01 AM; Lifecycle Status: Active; Minimum Order: 1; Mounting Type: Surface Mount; Operating Temperature: -55°C ~ 150°C (TJ); Package / Case: DO-214AB, SMC; Packaging: TapeAndReel; PartId: 7888; Part Status: Active; Price: 0.76; Series: 5.0SMDJ; Supplier 1: DigiKey; Supplier Part Number 1: 5.0SMDJ28CABBCT-ND; Supplier Device Package: DO-214AB (SMC); Voltage - Clamping (Max) @ Ipp: 45.4V; Voltage - Reverse Standoff (Typ): 28V
footprint DO214AB SMC
pins: 1, 2

## 5.0SMDJ30A
designator D?
TVS DIODE 30V 48.4V DO214AB; Manufacturer: Bourns Inc.; Current - Peak Pulse (10/1000µs): 103A; Power Line Protection: No; Power - Peak Pulse: 5000W (5kW); Type: Zener; Unidirectional Channels: 1; Voltage - Breakdown (Min): 33.3V; Part Number: 5.0SMDJ30A; Applications: General Purpose; ComponentLink1Description: Datasheet; ComponentLink1URL: https://www.bourns.com/docs/product-datasheets/5-0smdj.pdf; ComponentLink2Description: DigiKey Link; ComponentLink2URL: http://digikey.com/product-detail/en/bourns-inc/5.0SMDJ30A/5.0SMDJ30ABBCT-ND/7796652; LastUpdated: 9/2/2020 1:20:02 AM; Lifecycle Status: Active; Minimum Order: 1; Mounting Type: Surface Mount; Operating Temperature: -55°C ~ 150°C (TJ); Package / Case: DO-214AB, SMC; Packaging: TapeAndReel; PartId: 6640; Part Status: Active; Price: 0.72; Series: 5.0SMDJ; Supplier 1: DigiKey; Supplier Part Number 1: 5.0SMDJ30ABBCT-ND; Supplier Device Package: DO-214AB (SMC); Voltage - Clamping (Max) @ Ipp: 48.4V; Voltage - Reverse Standoff (Typ): 30V
footprint DO214AB SMC
pins: 1, 2

## 5.0SMDJ30CA
designator D?
TVS DIODE 30V 48.4V DO214AB; Manufacturer: Littelfuse Inc.; Bidirectional Channels: 1; Current - Peak Pulse (10/1000µs): 103A; Power Line Protection: No; Power - Peak Pulse: 5000W (5kW); Type: Zener; Voltage - Breakdown (Min): 33.3V; Part Number: 5.0SMDJ30CA; Applications: General Purpose; ComponentLink1Description: Datasheet; ComponentLink1URL: https://www.littelfuse.com/products/tvs-diodes/surface-mount/~/media/electronics/datasheets/tvs_diodes/littelfuse_tvs_diode_5_0smdj_datasheet.pdf.pdf; ComponentLink2Description: DigiKey Link; ComponentLink2URL: http://digikey.com/product-detail/en/littelfuse-inc/5.0SMDJ30CA/F6258CT-ND/4331765; LastUpdated: 9/2/2020 1:28:01 AM; Lifecycle Status: Active; Minimum Order: 1; Mounting Type: Surface Mount; Operating Temperature: -65°C ~ 150°C (TJ); Package / Case: DO-214AB, SMC; Packaging: TapeAndReel; PartId: 7873; Part Status: Active; Price: 1.02; Series: 5.0SMDJ; Supplier 1: DigiKey; Supplier Part Number 1: F6258CT-ND; Supplier Device Package: DO-214AB (SMCJ); Voltage - Clamping (Max) @ Ipp: 48.4V; Voltage - Reverse Standoff (Typ): 30V
footprint DO214AB SMC
pins: 1, 2

## 5.0SMDJ30CA-Q
designator D?
DIO TVS VWM 30V 5KW BIDIR SMC AE; Manufacturer: Bourns Inc.; Bidirectional Channels: 1; Current - Peak Pulse (10/1000µs): 103A; Power Line Protection: No; Power - Peak Pulse: 5000W (5kW); Type: Zener; Voltage - Breakdown (Min): 33.3V; Voltage - Clamping (Max) @ Ipp: 48.4V; Part Number: 5.0SMDJ30CA-Q; Applications: Automotive; ComponentLink1Description: Datasheet; ComponentLink1URL: https://www.bourns.com/docs/product-datasheets/5-0smdj-q.pdf?sfvrsn=a6c72f6_2; ComponentLink2Description: DigiKey Link; ComponentLink2URL: http://digikey.com/product-detail/en/bourns-inc/5.0SMDJ30CA-Q/5.0SMDJ30CA-QCT-ND/10222671; LastUpdated: 9/2/2020 1:28:06 AM; Lifecycle Status: Active; Minimum Order: 1; Mounting Type: Surface Mount; Operating Temperature: -55°C ~ 150°C (TJ); Package / Case: DO-214AB, SMC; Packaging: TapeAndReel; PartId: 8419; Part Status: Active; Price: 0.91; Series: Automotive, AEC-Q101, 5.0SMDJ; Supplier 1: DigiKey; Supplier Part Number 1: 5.0SMDJ30CA-QCT-ND; Supplier Device Package: SMC (DO-214AB); Voltage - Reverse Standoff (Typ): 30V
footprint DO214AB SMC
pins: 1, 2

## 5.0SMDJ30CA-T7
designator D?
TVS DIODE 30VWM 48.4VC SMD; Manufacturer: Littelfuse Inc.; Bidirectional Channels: 1; Current - Peak Pulse (10/1000µs): 103A; Power Line Protection: No; Power - Peak Pulse: 5000W (5kW); Type: Zener; Voltage - Breakdown (Min): 33.3V; Voltage - Clamping (Max) @ Ipp: 48.4V; Voltage - Reverse Standoff (Typ): 30V; Part Number: 5.0SMDJ30CA-T7; Applications: General Purpose; ComponentLink1Description: Datasheet; ComponentLink1URL: https://www.littelfuse.com/products/tvs-diodes/surface-mount/~/media/electronics/datasheets/tvs_diodes/littelfuse_tvs_diode_5_0smdj_datasheet.pdf.pdf; ComponentLink2Description: DigiKey Link; ComponentLink2URL: http://digikey.com/product-detail/en/littelfuse-inc/5.0SMDJ30CA-T7/5.0SMDJ30CA-T7CT-ND/8548361; LastUpdated: 9/2/2020 1:28:01 AM; Lifecycle Status: Active; Minimum Order: 1; Mounting Type: Surface Mount; Operating Temperature: -65°C ~ 150°C (TJ); Package / Case: DO-214AB, SMC; Packaging: TapeAndReel; PartId: 7871; Part Status: Active; Price: 1.22; Series: 5.0SMDJ; Supplier 1: DigiKey; Supplier Part Number 1: 5.0SMDJ30CA-T7CT-ND; Supplier Device Package: DO-214AB (SMCJ)
footprint DO214AB SMC
pins: 1, 2

## 5.0SMDJ33A
designator D?
TVS DIODE 33V 53.3V DO214AB; Manufacturer: Bourns Inc.; Current - Peak Pulse (10/1000µs): 93.9A; Power Line Protection: No; Power - Peak Pulse: 5000W (5kW); Type: Zener; Unidirectional Channels: 1; Voltage - Breakdown (Min): 36.7V; Part Number: 5.0SMDJ33A; Applications: General Purpose; ComponentLink1Description: Datasheet; ComponentLink1URL: https://www.bourns.com/docs/product-datasheets/5-0smdj.pdf; ComponentLink2Description: DigiKey Link; ComponentLink2URL: http://digikey.com/product-detail/en/bourns-inc/5.0SMDJ33A/5.0SMDJ33ABBCT-ND/7796654; LastUpdated: 9/2/2020 1:20:00 AM; Lifecycle Status: Active; Minimum Order: 1; Mounting Type: Surface Mount; Operating Temperature: -55°C ~ 150°C (TJ); Package / Case: DO-214AB, SMC; Packaging: TapeAndReel; PartId: 6451; Part Status: Active; Price: 0.72; Series: 5.0SMDJ; Supplier 1: DigiKey; Supplier Part Number 1: 5.0SMDJ33ABBCT-ND; Supplier Device Package: DO-214AB (SMC); Voltage - Clamping (Max) @ Ipp: 53.3V; Voltage - Reverse Standoff (Typ): 33V
footprint DO214AB SMC
pins: 1, 2

## 5.0SMDJ33A-Q
designator D?
DIO TVS VWM 33V 5KW UNIDIR SMC A; Manufacturer: Bourns Inc.; Current - Peak Pulse (10/1000µs): 93.9A; Power Line Protection: No; Power - Peak Pulse: 5000W (5kW); Type: Zener; Unidirectional Channels: 1; Voltage - Breakdown (Min): 36.7V; Voltage - Clamping (Max) @ Ipp: 53.3V; Part Number: 5.0SMDJ33A-Q; Applications: Automotive; ComponentLink1Description: Datasheet; ComponentLink1URL: https://www.bourns.com/docs/product-datasheets/5-0smdj-q.pdf?sfvrsn=a6c72f6_2; ComponentLink2Description: DigiKey Link; ComponentLink2URL: http://digikey.com/product-detail/en/bourns-inc/5.0SMDJ33A-Q/5.0SMDJ33A-QCT-ND/9467299; LastUpdated: 9/2/2020 1:20:04 AM; Lifecycle Status: Active; Minimum Order: 1; Mounting Type: Surface Mount; Operating Temperature: 150°C (TJ); Package / Case: DO-214AB, SMC; Packaging: TapeAndReel; PartId: 6816; Part Status: Active; Price: 0.86; Series: Automotive, AEC-Q101, 5.0SMDJ; Supplier 1: DigiKey; Supplier Part Number 1: 5.0SMDJ33A-QCT-ND; Supplier Device Package: SMC (DO-214AB); Voltage - Reverse Standoff (Typ): 33V
footprint DO214AB SMC
pins: 1, 2

## 5.0SMDJ33A-T7
designator D?
TVS DIODE 33V 53.3V DO214AB; Manufacturer: Littelfuse Inc.; Current - Peak Pulse (10/1000µs): 93.9A; Power Line Protection: No; Power - Peak Pulse: 5000W (5kW); Type: Zener; Unidirectional Channels: 1; Voltage - Breakdown (Min): 36.7V; Part Number: 5.0SMDJ33A-T7; Applications: General Purpose; ComponentLink1Description: Datasheet; ComponentLink1URL: https://www.littelfuse.com/products/tvs-diodes/surface-mount/~/media/electronics/datasheets/tvs_diodes/littelfuse_tvs_diode_5_0smdj_datasheet.pdf.pdf; ComponentLink2Description: DigiKey Link; ComponentLink2URL: http://digikey.com/product-detail/en/littelfuse-inc/5.0SMDJ33A-T7/5.0SMDJ33A-T7CT-ND/9857574; LastUpdated: 9/2/2020 1:19:58 AM; Lifecycle Status: Active; Minimum Order: 1; Mounting Type: Surface Mount; Operating Temperature: -65°C ~ 150°C (TJ); Package / Case: DO-214AB, SMC; Packaging: TapeAndReel; PartId: 6229; Part Status: Active; Price: 0.96; Series: 5.0SMDJ; Supplier 1: DigiKey; Supplier Part Number 1: 5.0SMDJ33A-T7CT-ND; Supplier Device Package: DO-214AB (SMCJ); Voltage - Clamping (Max) @ Ipp: 53.3V; Voltage - Reverse Standoff (Typ): 33V
footprint DO214AB SMC
pins: 1, 2

## 5.0SMDJ33AS
designator D?
TVS DIODE 5KW 33V 5%UNI DO-214AB; Manufacturer: Littelfuse Inc.; Current - Peak Pulse (10/1000µs): 93.9A; Power Line Protection: No; Power - Peak Pulse: 5000W (5kW); Type: Zener; Unidirectional Channels: 1; Voltage - Breakdown (Min): 36.7V; Voltage - Clamping (Max) @ Ipp: 53.3V; Part Number: 5.0SMDJ33AS; Applications: Telecom; ComponentLink1Description: Datasheet; ComponentLink1URL: https://m.littelfuse.com/~/media/electronics/datasheets/tvs_diodes/littelfuse_tvs_diode_5_0smdjxxs_datasheet.pdf.pdf; ComponentLink2Description: DigiKey Link; ComponentLink2URL: http://digikey.com/product-detail/en/littelfuse-inc/5.0SMDJ33AS/5.0SMDJ33ASCT-ND/10264819; LastUpdated: 9/2/2020 1:20:06 AM; Lifecycle Status: Active; Minimum Order: 1; Mounting Type: Surface Mount; Operating Temperature: -65°C ~ 150°C (TJ); Package / Case: DO-214AB, SMC; Packaging: TapeAndReel; PartId: 7006; Part Status: Active; Price: 0.72; Series: 5.0SMDJ-S; Supplier 1: DigiKey; Supplier Part Number 1: 5.0SMDJ33ASCT-ND; Supplier Device Package: DO-214AB (SMCJ); Voltage - Reverse Standoff (Typ): 33V
footprint DO214AB SMC
pins: 1, 2

## 5.0SMDJ33CA
designator D?
TVS DIODE 33V 53.3V DO214AB; Manufacturer: Littelfuse Inc.; Bidirectional Channels: 1; Current - Peak Pulse (10/1000µs): 93.9A; Power Line Protection: No; Power - Peak Pulse: 5000W (5kW); Type: Zener; Voltage - Breakdown (Min): 36.7V; Part Number: 5.0SMDJ33CA; Applications: General Purpose; ComponentLink1Description: Datasheet; ComponentLink1URL: https://www.littelfuse.com/products/tvs-diodes/surface-mount/~/media/electronics/datasheets/tvs_diodes/littelfuse_tvs_diode_5_0smdj_datasheet.pdf.pdf; ComponentLink2Description: DigiKey Link; ComponentLink2URL: http://digikey.com/product-detail/en/littelfuse-inc/5.0SMDJ33CA/F4120CT-ND/2745258; LastUpdated: 9/2/2020 1:28:03 AM; Lifecycle Status: Active; Minimum Order: 1; Mounting Type: Surface Mount; Operating Temperature: -65°C ~ 150°C (TJ); Package / Case: DO-214AB, SMC; Packaging: TapeAndReel; PartId: 8142; Part Status: Active; Price: 1.02; Series: 5.0SMDJ; Supplier 1: DigiKey; Supplier Part Number 1: F4120CT-ND; Supplier Device Package: DO-214AB (SMCJ); Voltage - Clamping (Max) @ Ipp: 53.3V; Voltage - Reverse Standoff (Typ): 33V
footprint DO214AB SMC
pins: 1, 2

## 5.0SMDJ33CA-H
designator D?
TVS DIODE 33V 53.3V DO214AB; Manufacturer: Bourns Inc.; Bidirectional Channels: 1; Current - Peak Pulse (10/1000µs): 93.9A; Power Line Protection: No; Power - Peak Pulse: 5000W (5kW); Type: Zener; Voltage - Breakdown (Min): 36.7V; Part Number: 5.0SMDJ33CA-H; Applications: General Purpose; ComponentLink1Description: Datasheet; ComponentLink1URL: https://www.bourns.com/docs/product-datasheets/5-0smdj.pdf; ComponentLink2Description: DigiKey Link; ComponentLink2URL: http://digikey.com/product-detail/en/bourns-inc/5.0SMDJ33CA-H/5.0SMDJ33CA-HCT-ND/7670059; LastUpdated: 9/2/2020 1:28:07 AM; Lifecycle Status: Active; Minimum Order: 1; Mounting Type: Surface Mount; Operating Temperature: -55°C ~ 150°C (TJ); Package / Case: DO-214AB, SMC; Packaging: TapeAndReel; PartId: 8581; Part Status: Active; Price: 0.91; Series: 5.0SMDJ; Supplier 1: DigiKey; Supplier Part Number 1: 5.0SMDJ33CA-HCT-ND; Supplier Device Package: DO-214AB (SMC); Voltage - Clamping (Max) @ Ipp: 53.3V; Voltage - Reverse Standoff (Typ): 33V
footprint DO214AB SMC
pins: 1, 2

## 5.0SMDJ33CA-Q
designator D?
DIO TVS VWM 33V 5KW BIDIR SMC AE; Manufacturer: Bourns Inc.; Bidirectional Channels: 1; Current - Peak Pulse (10/1000µs): 93.9A; Power Line Protection: No; Power - Peak Pulse: 5000W (5kW); Type: Zener; Voltage - Breakdown (Min): 36.7V; Voltage - Clamping (Max) @ Ipp: 53.3V; Part Number: 5.0SMDJ33CA-Q; Applications: Automotive; ComponentLink1Description: Datasheet; ComponentLink1URL: https://www.bourns.com/docs/product-datasheets/5-0smdj-q.pdf?sfvrsn=a6c72f6_2; ComponentLink2Description: DigiKey Link; ComponentLink2URL: http://digikey.com/product-detail/en/bourns-inc/5.0SMDJ33CA-Q/5.0SMDJ33CA-QCT-ND/9467302; LastUpdated: 9/2/2020 1:28:06 AM; Lifecycle Status: Active; Minimum Order: 1; Mounting Type: Surface Mount; Operating Temperature: 150°C (TJ); Package / Case: DO-214AB, SMC; Packaging: TapeAndReel; PartId: 8414; Part Status: Active; Price: 0.91; Series: Automotive, AEC-Q101, 5.0SMDJ; Supplier 1: DigiKey; Supplier Part Number 1: 5.0SMDJ33CA-QCT-ND; Supplier Device Package: SMC (DO-214AB); Voltage - Reverse Standoff (Typ): 33V
footprint DO214AB SMC
pins: 1, 2

## 5.0SMDJ33CA-T7
designator D?
TVS DIODE 33VWM 53.3VC SMD; Manufacturer: Littelfuse Inc.; Bidirectional Channels: 1; Current - Peak Pulse (10/1000µs): 93.9A; Power Line Protection: No; Power - Peak Pulse: 5000W (5kW); Type: Zener; Voltage - Breakdown (Min): 36.7V; Voltage - Clamping (Max) @ Ipp: 53.3V; Voltage - Reverse Standoff (Typ): 33V; Part Number: 5.0SMDJ33CA-T7; Applications: General Purpose; ComponentLink1Description: Datasheet; ComponentLink1URL: https://www.littelfuse.com/products/tvs-diodes/surface-mount/~/media/electronics/datasheets/tvs_diodes/littelfuse_tvs_diode_5_0smdj_datasheet.pdf.pdf; ComponentLink2Description: DigiKey Link; ComponentLink2URL: http://digikey.com/product-detail/en/littelfuse-inc/5.0SMDJ33CA-T7/5.0SMDJ33CA-T7CT-ND/8548362; LastUpdated: 9/2/2020 1:28:09 AM; Lifecycle Status: Active; Minimum Order: 1; Mounting Type: Surface Mount; Operating Temperature: -65°C ~ 150°C (TJ); Package / Case: DO-214AB, SMC; Packaging: TapeAndReel; PartId: 8792; Part Status: Active; Price: 1.22; Series: 5.0SMDJ; Supplier 1: DigiKey; Supplier Part Number 1: 5.0SMDJ33CA-T7CT-ND; Supplier Device Package: DO-214AB (SMCJ)
footprint DO214AB SMC
pins: 1, 2

## 5.0SMDJ36A
designator D?
TVS DIODE 36V 58.1V DO214AB; Manufacturer: Bourns Inc.; Current - Peak Pulse (10/1000µs): 86.1A; Power Line Protection: No; Power - Peak Pulse: 5000W (5kW); Type: Zener; Unidirectional Channels: 1; Voltage - Breakdown (Min): 40V; Part Number: 5.0SMDJ36A; Applications: General Purpose; ComponentLink1Description: Datasheet; ComponentLink1URL: https://www.bourns.com/docs/product-datasheets/5-0smdj.pdf; ComponentLink2Description: DigiKey Link; ComponentLink2URL: http://digikey.com/product-detail/en/bourns-inc/5.0SMDJ36A/5.0SMDJ36ABBCT-ND/7796656; LastUpdated: 9/2/2020 1:20:00 AM; Lifecycle Status: Active; Minimum Order: 1; Mounting Type: Surface Mount; Operating Temperature: -55°C ~ 150°C (TJ); Package / Case: DO-214AB, SMC; Packaging: TapeAndReel; PartId: 6450; Part Status: Active; Price: 0.72; Series: 5.0SMDJ; Supplier 1: DigiKey; Supplier Part Number 1: 5.0SMDJ36ABBCT-ND; Supplier Device Package: DO-214AB (SMC); Voltage - Clamping (Max) @ Ipp: 58.1V; Voltage - Reverse Standoff (Typ): 36V
footprint DO214AB SMC
pins: 1, 2